# Altium footprint library PcbLib1.PcbLib: 2 footprints
Each footprint in its own frame and in the unit in brackets; x right, y up, seen from the top. Pads: shape width x height; smd on the part's side, far side on the other; paste and mask are expansions set on the pad; w line width, h text height; cw(c..) or ccw(c..) is an arc to the next point about the centre after c.
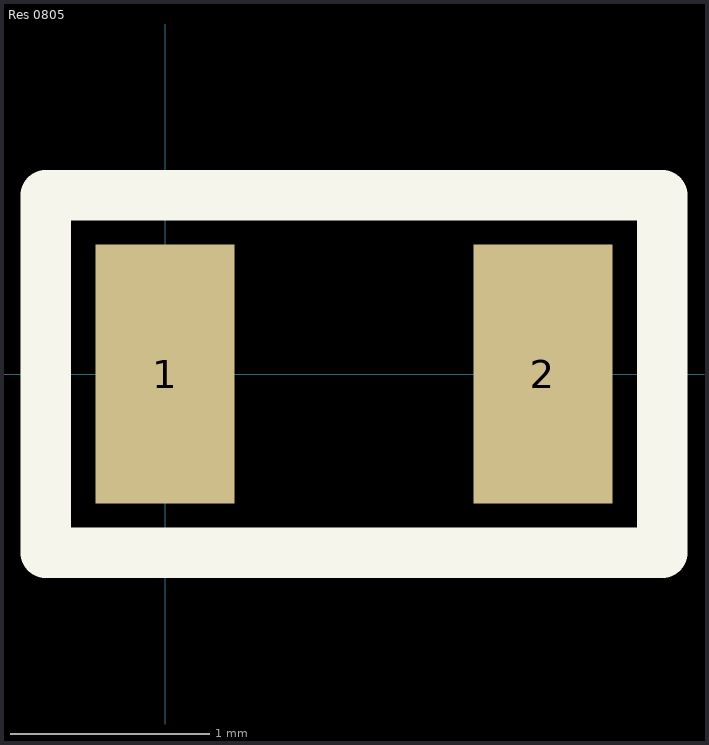
[diagram p0: the footprints below, top view; thin cyan lines are the x and y axes]

## 2N3904 [mm]

## Res 0805 [mm]
pads (2):
  rect 0.7x1.3 smd: 1(0,0) 2(1.9,0)
Top Overlay:
  lines w0.254: -0.6,-0.9 -0.6,0.9 2.5,0.9 2.5,-0.9 -0.6,-0.9
3D body "RN73C2A39K2BTDF.STEP": height 0.65, standoff 0, extent 0,-0.625 2,0.625